# Altium footprint library SAMTEC_FTSH-107-01-L-DV-K.PcbLib: 1 footprints
Each footprint in its own frame and in the unit in brackets; x right, y up, seen from the top. Pads: shape width x height; smd on the part's side, far side on the other; paste and mask are expansions set on the pad; w line width, h text height; cw(c..) or ccw(c..) is an arc to the next point about the centre after c.
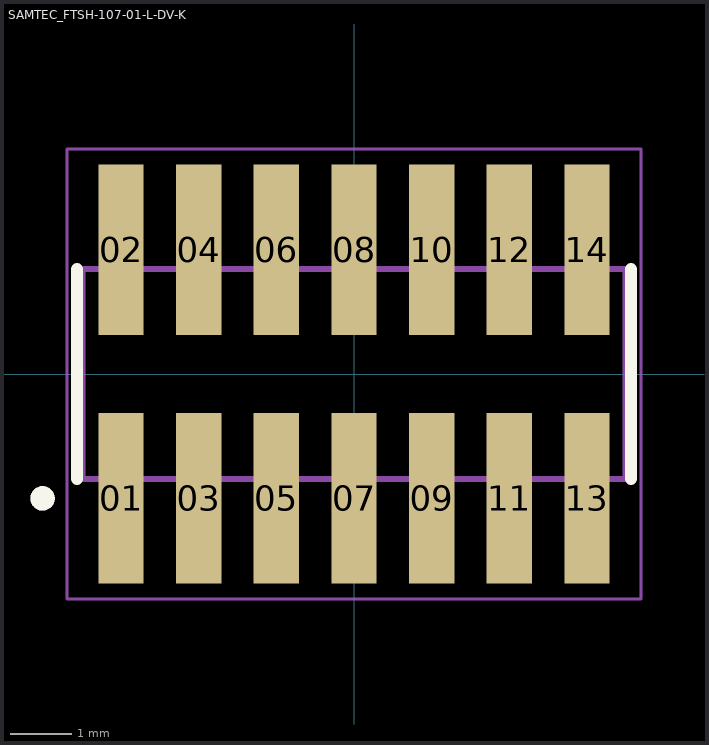
[diagram p0: the footprint, top view; thin cyan lines are the x and y axes]

## SAMTEC_FTSH-107-01-L-DV-K [mm]
pads (14):
  rect 0.74x2.79 smd: 01(-3.81,-2.035) 02(-3.81,2.035) 03(-2.54,-2.035) 04(-2.54,2.035) 05(-1.27,-2.035) 06(-1.27,2.035) 07(0,-2.035) 08(0,2.035) 09(1.27,-2.035) 10(1.27,2.035) 11(2.54,-2.035) 12(2.54,2.035) 13(3.81,-2.035) 14(3.81,2.035)
Top Overlay:
  circle w0.2: c-5.095,-2.035 r0.1
  lines w0.2: -4.53,-1.715 -4.53,1.715 ; 4.53,-1.715 4.53,1.715
Mechanical 13:
  circle w0.2: c-5.095,-2.035 r0.1
  lines w0.1: -4.445,-1.715 -4.445,1.715 ; -4.445,-1.715 4.445,-1.715 ; -4.445,-1.715 -4.445,1.715 ; -4.445,1.715 4.445,1.715 ; -4.445,1.715 4.445,1.715 ; 4.445,-1.715 4.445,1.715 ; 4.445,-1.715 4.445,1.715
Mechanical 15:
  lines w0.05: -4.695,-3.68 -4.695,3.68 4.695,3.68 4.695,-3.68 -4.695,-3.68